# Altium integrated library Analog Devices Data Converters Digital-to-Analog Converters.IntLib: 2231 symbols (part 156 of 181)
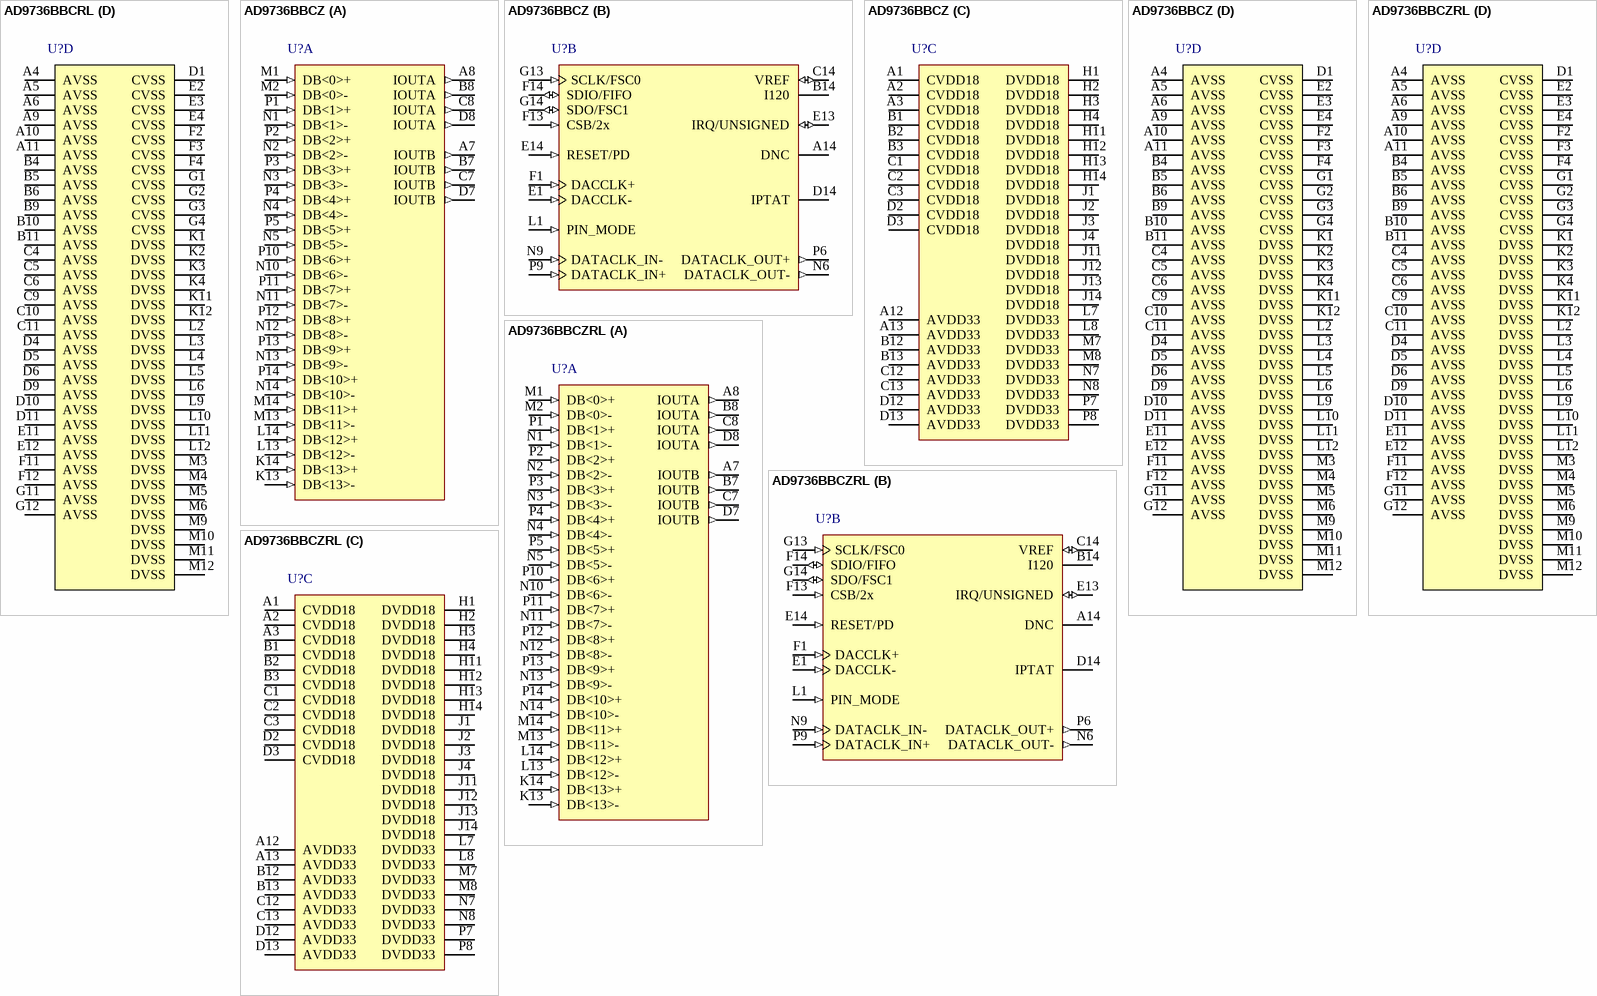
[diagram p269: symbols AD9736BBCRL to AD9736BBCZRL]

## AD9736BBCRL
designator U?
Single 14-Bit Digital-to-Analog Converter, 1200 Msps, -40 to +85 degC, BC-160-1, Reel; Generic Part Number: AD9736; Manufacturer: Analog Devices; PartNumber: AD9736BBCRL; # DAC Outputs: 1; Max V+: 3.47V; Op Pwr Diss: 550mW; Resolution (Bits): 14; Single Supply: Yes; DatasheetVersion: Rev.A; PackageVersion: 012006-0; PackageReference: BC-160-1; PackageDescription: 160-Ball Chip Scale Package Ball Grid Array [CSP_BGA]; Supplier 1: Digi-Key; Supplier Part Number 1: AD9736BBCRL-ND; Supplier 2: Mouser; Supplier Part Number 2: 584-AD9736BBCR; Packing: Reel; RoHS: N; Mounting Technology: Surface Mount; Code_JEDEC: MO-205-AE; ComponentLink1Description: Manufacturer URL; ComponentLink1URL: http://www.analog.com/en/index.html; ComponentLink2Description: Datasheet; ComponentLink2URL: http://www.analog.com/static/imported-files/data_sheets/AD9734_9735_9736.pdf; ComponentLink3Description: Package Specification; ComponentLink3URL: http://www.analog.com/static/imported-files/packages/31243239490197BC_160_1.pdf; ComponentLink4Description: Product URL; ComponentLink4URL: http://www.analog.com/en/digital-to-analog-converters/da-converters/ad9736/products/product.html
footprint BC-160-1 (BGA, 160-Leads, Body 12x12mm, Pitch 0.8mm)
part A pins: A7 IOUTB (out) "DAC Negative Output. 10 mA to 30 mA full-scale output current.", A8 IOUTA (out) "DAC Positive Output. 10 mA to 30 mA full-scale output current.", B7 IOUTB (out) "DAC Negative Output. 10 mA to 30 mA full-scale output current.", B8 IOUTA (out) "DAC Positive Output. 10 mA to 30 mA full-scale output current.", C7 IOUTB (out) "DAC Negative Output. 10 mA to 30 mA full-scale output current.", C8 IOUTA (out) "DAC Positive Output. 10 mA to 30 mA full-scale output current.", D7 IOUTB (out) "DAC Negative Output. 10 mA to 30 mA full-scale output current.", D8 IOUTA (out) "DAC Positive Output. 10 mA to 30 mA full-scale output current.", K13 DB<13>- (in) "Negative Data Input Bit 13 (MSB). Conforms to IEEE-1596 reduced range link.", K14 DB<13>+ (in) "Positive Data Input Bit 13 (MSB). Conforms to IEEE-1596 reduced range link.", L13 DB<12>- (in) "Negative Data Input Bit 12. Conforms to IEEE-1596 reduced range link.", L14 DB<12>+ (in) "Positive Data Input Bit 12. Conforms to IEEE-1596 reduced range link.", M1 DB<0>+ (in) "Positive Data Input Bit 0 (LSB). Conforms to IEEE-1596 reduced range link.", M2 DB<0>- (in) "Negative Data Input Bit 0 (LSB). Conforms to IEEE-1596 reduced range link.", M13 DB<11>- (in) "Negative Data Input Bit 11. Conforms to IEEE-1596 reduced range link.", M14 DB<11>+ (in) "Positive Data Input Bit 11. Conforms to IEEE-1596 reduced range link.", N1 DB<1>- (in) "Negative Data Input Bit 1. Conforms to IEEE-1596 reduced range link.", N2 DB<2>- (in) "Negative Data Input Bit 2. Conforms to IEEE-1596 reduced range link.", N3 DB<3>- (in) "Negative Data Input Bit 3. Conforms to IEEE-1596 reduced range link.", N4 DB<4>- (in) "Negative Data Input Bit 4. Conforms to IEEE-1596 reduced range link.", N5 DB<5>- (in) "Negative Data Input Bit 5. Conforms to IEEE-1596 reduced range link.", N10 DB<6>- (in) "Negative Data Input Bit 6. Conforms to IEEE-1596 reduced range link.", N11 DB<7>- (in) "Negative Data Input Bit 7. Conforms to IEEE-1596 reduced range link.", N12 DB<8>- (in) "Negative Data Input Bit 8. Conforms to IEEE-1596 reduced range link.", N13 DB<9>- (in) "Negative Data Input Bit 9. Conforms to IEEE-1596 reduced range link.", N14 DB<10>- (in) "Negative Data Input Bit 10. Conforms to IEEE-1596 reduced range link.", P1 DB<1>+ (in) "Positive Data Input Bit 1. Conforms to IEEE-1596 reduced range link.", P2 DB<2>+ (in) "Positive Data Input Bit 2. Conforms to IEEE-1596 reduced range link.", P3 DB<3>+ (in) "Positive Data Input Bit 3. Conforms to IEEE-1596 reduced range link.", P4 DB<4>+ (in) "Positive Data Input Bit 4. Conforms to IEEE-1596 reduced range link.", P5 DB<5>+ (in) "Positive Data Input Bit 5. Conforms to IEEE-1596 reduced range link.", P10 DB<6>+ (in) "Positive Data Input Bit 6. Conforms to IEEE-1596 reduced range link.", P11 DB<7>+ (in) "Positive Data Input Bit 7. Conforms to IEEE-1596 reduced range link.", P12 DB<8>+ (in) "Positive Data Input Bit 8. Conforms to IEEE-1596 reduced range link.", P13 DB<9>+ (in) "Positive Data Input Bit 9. Conforms to IEEE-1596 reduced range link.", P14 DB<10>+ (in) "Positive Data Input Bit 10. Conforms to IEEE-1596 reduced range link."
part B pins: A14 DNC "Do Not Connect.", B14 I120 "Nominal 1.2 V Reference. Tie to analog ground via 10 kohm resistor to generate a 120 uA reference current.", C14 VREF (io) "Band Gap Voltage Reference I/O. Tie to analog ground via 1 nF capacitor; output impedance approximately 5 kohm.", D14 IPTAT "Factory Test Pin. Output current, proportional to absolute temperature, is approximately 10 uA at 25degreesC with a slope of approximately 20 nA/degreesC.", E1 DACCLK- (in) "Negative DAC Clock Input (DACCLK).", E13 IRQ/UNSIGNED (io) "If PIN_MODE = 0, IRQ: Active low open-drain interrupt request output, pull up to DVDD33 with 10 kohm resistor. If PIN_MODE = 1, UNSIGNED: Digital input pin where 0 = twos complement input data format, 1 = unsigned.", E14 RESET/PD (in) "If PIN_MODE = 0, RESET: 1 resets the AD9734. If PIN_MODE = 1, PD: 1 puts the AD9734 in the power-down state.", F1 DACCLK+ (in) "Positive DAC Clock Input (DACCLK).", F13 CSB/2x (in) "See the Serial Peripheral Interface section and the Pin Mode Operation section for pin description.", F14 SDIO/FIFO (io) "See the Pin Mode Operation section for pin description.", G13 SCLK/FSC0 (in) "See the Pin Mode Operation section for pin description.", G14 SDO/FSC1 (io) "See the Pin Mode Operation section for pin description.", L1 PIN_MODE (in) "0 = SPI Mode. SPI is enabled. 1 = PIN Mode. SPI is disabled; direct pin control.", N6 DATACLK_OUT- (out) "Negative Data Output Clock. Conforms to IEEE-1596 reduced range link.", N9 DATACLK_IN- (in) "Negative Data Input Clock. Conforms to IEEE-1596 reduced range link.", P6 DATACLK_OUT+ (out) "Positive Data Output Clock. Conforms to IEEE-1596 reduced range link.", P9 DATACLK_IN+ (in) "Positive Data Input Clock. Conforms to IEEE-1596 reduced range link."
part C pins: A1 CVDD18 (power) "1.8 V Clock Supply.", A2 CVDD18 (power) "1.8 V Clock Supply.", A3 CVDD18 (power) "1.8 V Clock Supply.", A12 AVDD33 (power) "3.3 V Analog Supply.", A13 AVDD33 (power) "3.3 V Analog Supply.", B1 CVDD18 (power) "1.8 V Clock Supply.", B2 CVDD18 (power) "1.8 V Clock Supply.", B3 CVDD18 (power) "1.8 V Clock Supply.", B12 AVDD33 (power) "3.3 V Analog Supply.", B13 AVDD33 (power) "3.3 V Analog Supply.", C1 CVDD18 (power) "1.8 V Clock Supply.", C2 CVDD18 (power) "1.8 V Clock Supply.", C3 CVDD18 (power) "1.8 V Clock Supply.", C12 AVDD33 (power) "3.3 V Analog Supply.", C13 AVDD33 (power) "3.3 V Analog Supply.", D2 CVDD18 (power) "1.8 V Clock Supply.", D3 CVDD18 (power) "1.8 V Clock Supply.", D12 AVDD33 (power) "3.3 V Analog Supply.", D13 AVDD33 (power) "3.3 V Analog Supply.", H1 DVDD18 (power) "1.8 V Digital Supply.", H2 DVDD18 (power) "1.8 V Digital Supply.", H3 DVDD18 (power) "1.8 V Digital Supply.", H4 DVDD18 (power) "1.8 V Digital Supply.", H11 DVDD18 (power) "1.8 V Digital Supply.", H12 DVDD18 (power) "1.8 V Digital Supply.", H13 DVDD18 (power) "1.8 V Digital Supply.", H14 DVDD18 (power) "1.8 V Digital Supply.", J1 DVDD18 (power) "1.8 V Digital Supply.", J2 DVDD18 (power) "1.8 V Digital Supply.", J3 DVDD18 (power) "1.8 V Digital Supply.", J4 DVDD18 (power) "1.8 V Digital Supply.", J11 DVDD18 (power) "1.8 V Digital Supply.", J12 DVDD18 (power) "1.8 V Digital Supply.", J13 DVDD18 (power) "1.8 V Digital Supply.", J14 DVDD18 (power) "1.8 V Digital Supply.", L7 DVDD33 (power) "3.3 V Digital Supply.", L8 DVDD33 (power) "3.3 V Digital Supply.", M7 DVDD33 (power) "3.3 V Digital Supply.", M8 DVDD33 (power) "3.3 V Digital Supply.", N7 DVDD33 (power) "3.3 V Digital Supply.", N8 DVDD33 (power) "3.3 V Digital Supply.", P7 DVDD33 (power) "3.3 V Digital Supply.", P8 DVDD33 (power) "3.3 V Digital Supply."
part D pins: A4 AVSS (power) "Analog Supply Ground.", A5 AVSS (power) "Analog Supply Ground.", A6 AVSS (power) "Analog Supply Ground.", A9 AVSS (power) "Analog Supply Ground.", A10 AVSS (power) "Analog Supply Ground.", A11 AVSS (power) "Analog Supply Ground.", B4 AVSS (power) "Analog Supply Ground.", B5 AVSS (power) "Analog Supply Ground.", B6 AVSS (power) "Analog Supply Ground.", B9 AVSS (power) "Analog Supply Ground.", B10 AVSS (power) "Analog Supply Ground.", B11 AVSS (power) "Analog Supply Ground.", C4 AVSS (power) "Analog Supply Ground.", C5 AVSS (power) "Analog Supply Ground.", C6 AVSS (power) "Analog Supply Ground.", C9 AVSS (power) "Analog Supply Ground.", C10 AVSS (power) "Analog Supply Ground.", C11 AVSS (power) "Analog Supply Ground.", D1 CVSS (power) "Clock Supply Ground.", D4 AVSS (power) "Analog Supply Ground.", D5 AVSS (power) "Analog Supply Ground.", D6 AVSS (power) "Analog Supply Ground.", D9 AVSS (power) "Analog Supply Ground.", D10 AVSS (power) "Analog Supply Ground.", D11 AVSS (power) "Analog Supply Ground.", E2 CVSS (power) "Clock Supply Ground.", E3 CVSS (power) "Clock Supply Ground.", E4 CVSS (power) "Clock Supply Ground.", E11 AVSS (power) "Analog Supply Ground Shield. Tie to AVSS at the DAC.", E12 AVSS (power) "Analog Supply Ground Shield. Tie to AVSS at the DAC.", F2 CVSS (power) "Clock Supply Ground.", F3 CVSS (power) "Clock Supply Ground.", F4 CVSS (power) "Clock Supply Ground.", F11 AVSS (power) "Analog Supply Ground Shield. Tie to AVSS at the DAC.", F12 AVSS (power) "Analog Supply Ground Shield. Tie to AVSS at the DAC.", G1 CVSS (power) "Clock Supply Ground.", G2 CVSS (power) "Clock Supply Ground.", G3 CVSS (power) "Clock Supply Ground.", G4 CVSS (power) "Clock Supply Ground.", G11 AVSS (power) "Analog Supply Ground Shield. Tie to AVSS at the DAC.", G12 AVSS (power) "Analog Supply Ground Shield. Tie to AVSS at the DAC.", K1 DVSS (power) "Digital Supply Ground.", K2 DVSS (power) "Digital Supply Ground.", K3 DVSS (power) "Digital Supply Ground.", K4 DVSS (power) "Digital Supply Ground.", K11 DVSS (power) "Digital Supply Ground.", K12 DVSS (power) "Digital Supply Ground.", L2 DVSS (power) "Digital Supply Ground.", L3 DVSS (power) "Digital Supply Ground.", L4 DVSS (power) "Digital Supply Ground.", L5 DVSS (power) "Digital Supply Ground.", L6 DVSS (power) "Digital Supply Ground.", L9 DVSS (power) "Digital Supply Ground.", L10 DVSS (power) "Digital Supply Ground.", L11 DVSS (power) "Digital Supply Ground.", L12 DVSS (power) "Digital Supply Ground.", M3 DVSS (power) "Digital Supply Ground.", M4 DVSS (power) "Digital Supply Ground.", M5 DVSS (power) "Digital Supply Ground.", M6 DVSS (power) "Digital Supply Ground.", M9 DVSS (power) "Digital Supply Ground.", M10 DVSS (power) "Digital Supply Ground.", M11 DVSS (power) "Digital Supply Ground.", M12 DVSS (power) "Digital Supply Ground."

## AD9736BBCZ
designator U?
Single 14-Bit Digital-to-Analog Converter, 1200 Msps, -40 to +85 degC, BC-160-1, Pb-Free, Tray; Generic Part Number: AD9736; Manufacturer: Analog Devices; PartNumber: AD9736BBCZ; # DAC Outputs: 1; Max V+: 3.47V; Op Pwr Diss: 550mW; Resolution (Bits): 14; Single Supply: Yes; DatasheetVersion: Rev.A; PackageVersion: 012006-0; PackageReference: BC-160-1; PackageDescription: 160-Ball Chip Scale Package Ball Grid Array [CSP_BGA]; Supplier 1: Digi-Key; Supplier Part Number 1: AD9736BBCZ-ND; Supplier 2: Farnell; Supplier Part Number 2: 1117882; Supplier 3: Newark; Supplier Part Number 3: 12M9241; Supplier 4: Mouser; Supplier Part Number 4: 584-AD9736BBCZ; Packing: Tray; RoHS: Y; Mounting Technology: Surface Mount; Code_JEDEC: MO-205-AE; ComponentLink1Description: Manufacturer URL; ComponentLink1URL: http://www.analog.com/en/index.html; ComponentLink2Description: Datasheet; ComponentLink2URL: http://www.analog.com/static/imported-files/data_sheets/AD9734_9735_9736.pdf; ComponentLink3Description: Package Specification; ComponentLink3URL: http://www.analog.com/static/imported-files/packages/31243239490197BC_160_1.pdf; ComponentLink4Description: Product URL; ComponentLink4URL: http://www.analog.com/en/digital-to-analog-converters/da-converters/ad9736/products/product.html
footprint BC-160-1 (BGA, 160-Leads, Body 12x12mm, Pitch 0.8mm)
part A pins: A7 IOUTB (out) "DAC Negative Output. 10 mA to 30 mA full-scale output current.", A8 IOUTA (out) "DAC Positive Output. 10 mA to 30 mA full-scale output current.", B7 IOUTB (out) "DAC Negative Output. 10 mA to 30 mA full-scale output current.", B8 IOUTA (out) "DAC Positive Output. 10 mA to 30 mA full-scale output current.", C7 IOUTB (out) "DAC Negative Output. 10 mA to 30 mA full-scale output current.", C8 IOUTA (out) "DAC Positive Output. 10 mA to 30 mA full-scale output current.", D7 IOUTB (out) "DAC Negative Output. 10 mA to 30 mA full-scale output current.", D8 IOUTA (out) "DAC Positive Output. 10 mA to 30 mA full-scale output current.", K13 DB<13>- (in) "Negative Data Input Bit 13 (MSB). Conforms to IEEE-1596 reduced range link.", K14 DB<13>+ (in) "Positive Data Input Bit 13 (MSB). Conforms to IEEE-1596 reduced range link.", L13 DB<12>- (in) "Negative Data Input Bit 12. Conforms to IEEE-1596 reduced range link.", L14 DB<12>+ (in) "Positive Data Input Bit 12. Conforms to IEEE-1596 reduced range link.", M1 DB<0>+ (in) "Positive Data Input Bit 0 (LSB). Conforms to IEEE-1596 reduced range link.", M2 DB<0>- (in) "Negative Data Input Bit 0 (LSB). Conforms to IEEE-1596 reduced range link.", M13 DB<11>- (in) "Negative Data Input Bit 11. Conforms to IEEE-1596 reduced range link.", M14 DB<11>+ (in) "Positive Data Input Bit 11. Conforms to IEEE-1596 reduced range link.", N1 DB<1>- (in) "Negative Data Input Bit 1. Conforms to IEEE-1596 reduced range link.", N2 DB<2>- (in) "Negative Data Input Bit 2. Conforms to IEEE-1596 reduced range link.", N3 DB<3>- (in) "Negative Data Input Bit 3. Conforms to IEEE-1596 reduced range link.", N4 DB<4>- (in) "Negative Data Input Bit 4. Conforms to IEEE-1596 reduced range link.", N5 DB<5>- (in) "Negative Data Input Bit 5. Conforms to IEEE-1596 reduced range link.", N10 DB<6>- (in) "Negative Data Input Bit 6. Conforms to IEEE-1596 reduced range link.", N11 DB<7>- (in) "Negative Data Input Bit 7. Conforms to IEEE-1596 reduced range link.", N12 DB<8>- (in) "Negative Data Input Bit 8. Conforms to IEEE-1596 reduced range link.", N13 DB<9>- (in) "Negative Data Input Bit 9. Conforms to IEEE-1596 reduced range link.", N14 DB<10>- (in) "Negative Data Input Bit 10. Conforms to IEEE-1596 reduced range link.", P1 DB<1>+ (in) "Positive Data Input Bit 1. Conforms to IEEE-1596 reduced range link.", P2 DB<2>+ (in) "Positive Data Input Bit 2. Conforms to IEEE-1596 reduced range link.", P3 DB<3>+ (in) "Positive Data Input Bit 3. Conforms to IEEE-1596 reduced range link.", P4 DB<4>+ (in) "Positive Data Input Bit 4. Conforms to IEEE-1596 reduced range link.", P5 DB<5>+ (in) "Positive Data Input Bit 5. Conforms to IEEE-1596 reduced range link.", P10 DB<6>+ (in) "Positive Data Input Bit 6. Conforms to IEEE-1596 reduced range link.", P11 DB<7>+ (in) "Positive Data Input Bit 7. Conforms to IEEE-1596 reduced range link.", P12 DB<8>+ (in) "Positive Data Input Bit 8. Conforms to IEEE-1596 reduced range link.", P13 DB<9>+ (in) "Positive Data Input Bit 9. Conforms to IEEE-1596 reduced range link.", P14 DB<10>+ (in) "Positive Data Input Bit 10. Conforms to IEEE-1596 reduced range link."
part B pins: A14 DNC "Do Not Connect.", B14 I120 "Nominal 1.2 V Reference. Tie to analog ground via 10 kohm resistor to generate a 120 uA reference current.", C14 VREF (io) "Band Gap Voltage Reference I/O. Tie to analog ground via 1 nF capacitor; output impedance approximately 5 kohm.", D14 IPTAT "Factory Test Pin. Output current, proportional to absolute temperature, is approximately 10 uA at 25degreesC with a slope of approximately 20 nA/degreesC.", E1 DACCLK- (in) "Negative DAC Clock Input (DACCLK).", E13 IRQ/UNSIGNED (io) "If PIN_MODE = 0, IRQ: Active low open-drain interrupt request output, pull up to DVDD33 with 10 kohm resistor. If PIN_MODE = 1, UNSIGNED: Digital input pin where 0 = twos complement input data format, 1 = unsigned.", E14 RESET/PD (in) "If PIN_MODE = 0, RESET: 1 resets the AD9734. If PIN_MODE = 1, PD: 1 puts the AD9734 in the power-down state.", F1 DACCLK+ (in) "Positive DAC Clock Input (DACCLK).", F13 CSB/2x (in) "See the Serial Peripheral Interface section and the Pin Mode Operation section for pin description.", F14 SDIO/FIFO (io) "See the Pin Mode Operation section for pin description.", G13 SCLK/FSC0 (in) "See the Pin Mode Operation section for pin description.", G14 SDO/FSC1 (io) "See the Pin Mode Operation section for pin description.", L1 PIN_MODE (in) "0 = SPI Mode. SPI is enabled. 1 = PIN Mode. SPI is disabled; direct pin control.", N6 DATACLK_OUT- (out) "Negative Data Output Clock. Conforms to IEEE-1596 reduced range link.", N9 DATACLK_IN- (in) "Negative Data Input Clock. Conforms to IEEE-1596 reduced range link.", P6 DATACLK_OUT+ (out) "Positive Data Output Clock. Conforms to IEEE-1596 reduced range link.", P9 DATACLK_IN+ (in) "Positive Data Input Clock. Conforms to IEEE-1596 reduced range link."
part C pins: A1 CVDD18 (power) "1.8 V Clock Supply.", A2 CVDD18 (power) "1.8 V Clock Supply.", A3 CVDD18 (power) "1.8 V Clock Supply.", A12 AVDD33 (power) "3.3 V Analog Supply.", A13 AVDD33 (power) "3.3 V Analog Supply.", B1 CVDD18 (power) "1.8 V Clock Supply.", B2 CVDD18 (power) "1.8 V Clock Supply.", B3 CVDD18 (power) "1.8 V Clock Supply.", B12 AVDD33 (power) "3.3 V Analog Supply.", B13 AVDD33 (power) "3.3 V Analog Supply.", C1 CVDD18 (power) "1.8 V Clock Supply.", C2 CVDD18 (power) "1.8 V Clock Supply.", C3 CVDD18 (power) "1.8 V Clock Supply.", C12 AVDD33 (power) "3.3 V Analog Supply.", C13 AVDD33 (power) "3.3 V Analog Supply.", D2 CVDD18 (power) "1.8 V Clock Supply.", D3 CVDD18 (power) "1.8 V Clock Supply.", D12 AVDD33 (power) "3.3 V Analog Supply.", D13 AVDD33 (power) "3.3 V Analog Supply.", H1 DVDD18 (power) "1.8 V Digital Supply.", H2 DVDD18 (power) "1.8 V Digital Supply.", H3 DVDD18 (power) "1.8 V Digital Supply.", H4 DVDD18 (power) "1.8 V Digital Supply.", H11 DVDD18 (power) "1.8 V Digital Supply.", H12 DVDD18 (power) "1.8 V Digital Supply.", H13 DVDD18 (power) "1.8 V Digital Supply.", H14 DVDD18 (power) "1.8 V Digital Supply.", J1 DVDD18 (power) "1.8 V Digital Supply.", J2 DVDD18 (power) "1.8 V Digital Supply.", J3 DVDD18 (power) "1.8 V Digital Supply.", J4 DVDD18 (power) "1.8 V Digital Supply.", J11 DVDD18 (power) "1.8 V Digital Supply.", J12 DVDD18 (power) "1.8 V Digital Supply.", J13 DVDD18 (power) "1.8 V Digital Supply.", J14 DVDD18 (power) "1.8 V Digital Supply.", L7 DVDD33 (power) "3.3 V Digital Supply.", L8 DVDD33 (power) "3.3 V Digital Supply.", M7 DVDD33 (power) "3.3 V Digital Supply.", M8 DVDD33 (power) "3.3 V Digital Supply.", N7 DVDD33 (power) "3.3 V Digital Supply.", N8 DVDD33 (power) "3.3 V Digital Supply.", P7 DVDD33 (power) "3.3 V Digital Supply.", P8 DVDD33 (power) "3.3 V Digital Supply."
part D pins: A4 AVSS (power) "Analog Supply Ground.", A5 AVSS (power) "Analog Supply Ground.", A6 AVSS (power) "Analog Supply Ground.", A9 AVSS (power) "Analog Supply Ground.", A10 AVSS (power) "Analog Supply Ground.", A11 AVSS (power) "Analog Supply Ground.", B4 AVSS (power) "Analog Supply Ground.", B5 AVSS (power) "Analog Supply Ground.", B6 AVSS (power) "Analog Supply Ground.", B9 AVSS (power) "Analog Supply Ground.", B10 AVSS (power) "Analog Supply Ground.", B11 AVSS (power) "Analog Supply Ground.", C4 AVSS (power) "Analog Supply Ground.", C5 AVSS (power) "Analog Supply Ground.", C6 AVSS (power) "Analog Supply Ground.", C9 AVSS (power) "Analog Supply Ground.", C10 AVSS (power) "Analog Supply Ground.", C11 AVSS (power) "Analog Supply Ground.", D1 CVSS (power) "Clock Supply Ground.", D4 AVSS (power) "Analog Supply Ground.", D5 AVSS (power) "Analog Supply Ground.", D6 AVSS (power) "Analog Supply Ground.", D9 AVSS (power) "Analog Supply Ground.", D10 AVSS (power) "Analog Supply Ground.", D11 AVSS (power) "Analog Supply Ground.", E2 CVSS (power) "Clock Supply Ground.", E3 CVSS (power) "Clock Supply Ground.", E4 CVSS (power) "Clock Supply Ground.", E11 AVSS (power) "Analog Supply Ground Shield. Tie to AVSS at the DAC.", E12 AVSS (power) "Analog Supply Ground Shield. Tie to AVSS at the DAC.", F2 CVSS (power) "Clock Supply Ground.", F3 CVSS (power) "Clock Supply Ground.", F4 CVSS (power) "Clock Supply Ground.", F11 AVSS (power) "Analog Supply Ground Shield. Tie to AVSS at the DAC.", F12 AVSS (power) "Analog Supply Ground Shield. Tie to AVSS at the DAC.", G1 CVSS (power) "Clock Supply Ground.", G2 CVSS (power) "Clock Supply Ground.", G3 CVSS (power) "Clock Supply Ground.", G4 CVSS (power) "Clock Supply Ground.", G11 AVSS (power) "Analog Supply Ground Shield. Tie to AVSS at the DAC.", G12 AVSS (power) "Analog Supply Ground Shield. Tie to AVSS at the DAC.", K1 DVSS (power) "Digital Supply Ground.", K2 DVSS (power) "Digital Supply Ground.", K3 DVSS (power) "Digital Supply Ground.", K4 DVSS (power) "Digital Supply Ground.", K11 DVSS (power) "Digital Supply Ground.", K12 DVSS (power) "Digital Supply Ground.", L2 DVSS (power) "Digital Supply Ground.", L3 DVSS (power) "Digital Supply Ground.", L4 DVSS (power) "Digital Supply Ground.", L5 DVSS (power) "Digital Supply Ground.", L6 DVSS (power) "Digital Supply Ground.", L9 DVSS (power) "Digital Supply Ground.", L10 DVSS (power) "Digital Supply Ground.", L11 DVSS (power) "Digital Supply Ground.", L12 DVSS (power) "Digital Supply Ground.", M3 DVSS (power) "Digital Supply Ground.", M4 DVSS (power) "Digital Supply Ground.", M5 DVSS (power) "Digital Supply Ground.", M6 DVSS (power) "Digital Supply Ground.", M9 DVSS (power) "Digital Supply Ground.", M10 DVSS (power) "Digital Supply Ground.", M11 DVSS (power) "Digital Supply Ground.", M12 DVSS (power) "Digital Supply Ground."

## AD9736BBCZRL
designator U?
Single 14-Bit Digital-to-Analog Converter, 1200 Msps, -40 to +85 degC, BC-160-1, Pb-Free, Reel; Generic Part Number: AD9736; Manufacturer: Analog Devices; PartNumber: AD9736BBCZRL; # DAC Outputs: 1; Max V+: 3.47V; Op Pwr Diss: 550mW; Resolution (Bits): 14; Single Supply: Yes; DatasheetVersion: Rev.A; PackageVersion: 012006-0; PackageReference: BC-160-1; PackageDescription: 160-Ball Chip Scale Package Ball Grid Array [CSP_BGA]; Supplier 1: Digi-Key; Supplier Part Number 1: AD9736BBCZRL-ND; Supplier 2: Mouser; Supplier Part Number 2: 584-AD9736BBCZR; Packing: Reel; RoHS: Y; Mounting Technology: Surface Mount; Code_JEDEC: MO-205-AE; ComponentLink1Description: Manufacturer URL; ComponentLink1URL: http://www.analog.com/en/index.html; ComponentLink2Description: Datasheet; ComponentLink2URL: http://www.analog.com/static/imported-files/data_sheets/AD9734_9735_9736.pdf; ComponentLink3Description: Package Specification; ComponentLink3URL: http://www.analog.com/static/imported-files/packages/31243239490197BC_160_1.pdf; ComponentLink4Description: Product URL; ComponentLink4URL: http://www.analog.com/en/digital-to-analog-converters/da-converters/ad9736/products/product.html
footprint BC-160-1 (BGA, 160-Leads, Body 12x12mm, Pitch 0.8mm)
part A pins: A7 IOUTB (out) "DAC Negative Output. 10 mA to 30 mA full-scale output current.", A8 IOUTA (out) "DAC Positive Output. 10 mA to 30 mA full-scale output current.", B7 IOUTB (out) "DAC Negative Output. 10 mA to 30 mA full-scale output current.", B8 IOUTA (out) "DAC Positive Output. 10 mA to 30 mA full-scale output current.", C7 IOUTB (out) "DAC Negative Output. 10 mA to 30 mA full-scale output current.", C8 IOUTA (out) "DAC Positive Output. 10 mA to 30 mA full-scale output current.", D7 IOUTB (out) "DAC Negative Output. 10 mA to 30 mA full-scale output current.", D8 IOUTA (out) "DAC Positive Output. 10 mA to 30 mA full-scale output current.", K13 DB<13>- (in) "Negative Data Input Bit 13 (MSB). Conforms to IEEE-1596 reduced range link.", K14 DB<13>+ (in) "Positive Data Input Bit 13 (MSB). Conforms to IEEE-1596 reduced range link.", L13 DB<12>- (in) "Negative Data Input Bit 12. Conforms to IEEE-1596 reduced range link.", L14 DB<12>+ (in) "Positive Data Input Bit 12. Conforms to IEEE-1596 reduced range link.", M1 DB<0>+ (in) "Positive Data Input Bit 0 (LSB). Conforms to IEEE-1596 reduced range link.", M2 DB<0>- (in) "Negative Data Input Bit 0 (LSB). Conforms to IEEE-1596 reduced range link.", M13 DB<11>- (in) "Negative Data Input Bit 11. Conforms to IEEE-1596 reduced range link.", M14 DB<11>+ (in) "Positive Data Input Bit 11. Conforms to IEEE-1596 reduced range link.", N1 DB<1>- (in) "Negative Data Input Bit 1. Conforms to IEEE-1596 reduced range link.", N2 DB<2>- (in) "Negative Data Input Bit 2. Conforms to IEEE-1596 reduced range link.", N3 DB<3>- (in) "Negative Data Input Bit 3. Conforms to IEEE-1596 reduced range link.", N4 DB<4>- (in) "Negative Data Input Bit 4. Conforms to IEEE-1596 reduced range link.", N5 DB<5>- (in) "Negative Data Input Bit 5. Conforms to IEEE-1596 reduced range link.", N10 DB<6>- (in) "Negative Data Input Bit 6. Conforms to IEEE-1596 reduced range link.", N11 DB<7>- (in) "Negative Data Input Bit 7. Conforms to IEEE-1596 reduced range link.", N12 DB<8>- (in) "Negative Data Input Bit 8. Conforms to IEEE-1596 reduced range link.", N13 DB<9>- (in) "Negative Data Input Bit 9. Conforms to IEEE-1596 reduced range link.", N14 DB<10>- (in) "Negative Data Input Bit 10. Conforms to IEEE-1596 reduced range link.", P1 DB<1>+ (in) "Positive Data Input Bit 1. Conforms to IEEE-1596 reduced range link.", P2 DB<2>+ (in) "Positive Data Input Bit 2. Conforms to IEEE-1596 reduced range link.", P3 DB<3>+ (in) "Positive Data Input Bit 3. Conforms to IEEE-1596 reduced range link.", P4 DB<4>+ (in) "Positive Data Input Bit 4. Conforms to IEEE-1596 reduced range link.", P5 DB<5>+ (in) "Positive Data Input Bit 5. Conforms to IEEE-1596 reduced range link.", P10 DB<6>+ (in) "Positive Data Input Bit 6. Conforms to IEEE-1596 reduced range link.", P11 DB<7>+ (in) "Positive Data Input Bit 7. Conforms to IEEE-1596 reduced range link.", P12 DB<8>+ (in) "Positive Data Input Bit 8. Conforms to IEEE-1596 reduced range link.", P13 DB<9>+ (in) "Positive Data Input Bit 9. Conforms to IEEE-1596 reduced range link.", P14 DB<10>+ (in) "Positive Data Input Bit 10. Conforms to IEEE-1596 reduced range link."
part B pins: A14 DNC "Do Not Connect.", B14 I120 "Nominal 1.2 V Reference. Tie to analog ground via 10 kohm resistor to generate a 120 uA reference current.", C14 VREF (io) "Band Gap Voltage Reference I/O. Tie to analog ground via 1 nF capacitor; output impedance approximately 5 kohm.", D14 IPTAT "Factory Test Pin. Output current, proportional to absolute temperature, is approximately 10 uA at 25degreesC with a slope of approximately 20 nA/degreesC.", E1 DACCLK- (in) "Negative DAC Clock Input (DACCLK).", E13 IRQ/UNSIGNED (io) "If PIN_MODE = 0, IRQ: Active low open-drain interrupt request output, pull up to DVDD33 with 10 kohm resistor. If PIN_MODE = 1, UNSIGNED: Digital input pin where 0 = twos complement input data format, 1 = unsigned.", E14 RESET/PD (in) "If PIN_MODE = 0, RESET: 1 resets the AD9734. If PIN_MODE = 1, PD: 1 puts the AD9734 in the power-down state.", F1 DACCLK+ (in) "Positive DAC Clock Input (DACCLK).", F13 CSB/2x (in) "See the Serial Peripheral Interface section and the Pin Mode Operation section for pin description.", F14 SDIO/FIFO (io) "See the Pin Mode Operation section for pin description.", G13 SCLK/FSC0 (in) "See the Pin Mode Operation section for pin description.", G14 SDO/FSC1 (io) "See the Pin Mode Operation section for pin description.", L1 PIN_MODE (in) "0 = SPI Mode. SPI is enabled. 1 = PIN Mode. SPI is disabled; direct pin control.", N6 DATACLK_OUT- (out) "Negative Data Output Clock. Conforms to IEEE-1596 reduced range link.", N9 DATACLK_IN- (in) "Negative Data Input Clock. Conforms to IEEE-1596 reduced range link.", P6 DATACLK_OUT+ (out) "Positive Data Output Clock. Conforms to IEEE-1596 reduced range link.", P9 DATACLK_IN+ (in) "Positive Data Input Clock. Conforms to IEEE-1596 reduced range link."
part C pins: A1 CVDD18 (power) "1.8 V Clock Supply.", A2 CVDD18 (power) "1.8 V Clock Supply.", A3 CVDD18 (power) "1.8 V Clock Supply.", A12 AVDD33 (power) "3.3 V Analog Supply.", A13 AVDD33 (power) "3.3 V Analog Supply.", B1 CVDD18 (power) "1.8 V Clock Supply.", B2 CVDD18 (power) "1.8 V Clock Supply.", B3 CVDD18 (power) "1.8 V Clock Supply.", B12 AVDD33 (power) "3.3 V Analog Supply.", B13 AVDD33 (power) "3.3 V Analog Supply.", C1 CVDD18 (power) "1.8 V Clock Supply.", C2 CVDD18 (power) "1.8 V Clock Supply.", C3 CVDD18 (power) "1.8 V Clock Supply.", C12 AVDD33 (power) "3.3 V Analog Supply.", C13 AVDD33 (power) "3.3 V Analog Supply.", D2 CVDD18 (power) "1.8 V Clock Supply.", D3 CVDD18 (power) "1.8 V Clock Supply.", D12 AVDD33 (power) "3.3 V Analog Supply.", D13 AVDD33 (power) "3.3 V Analog Supply.", H1 DVDD18 (power) "1.8 V Digital Supply.", H2 DVDD18 (power) "1.8 V Digital Supply.", H3 DVDD18 (power) "1.8 V Digital Supply.", H4 DVDD18 (power) "1.8 V Digital Supply.", H11 DVDD18 (power) "1.8 V Digital Supply.", H12 DVDD18 (power) "1.8 V Digital Supply.", H13 DVDD18 (power) "1.8 V Digital Supply.", H14 DVDD18 (power) "1.8 V Digital Supply.", J1 DVDD18 (power) "1.8 V Digital Supply.", J2 DVDD18 (power) "1.8 V Digital Supply.", J3 DVDD18 (power) "1.8 V Digital Supply.", J4 DVDD18 (power) "1.8 V Digital Supply.", J11 DVDD18 (power) "1.8 V Digital Supply.", J12 DVDD18 (power) "1.8 V Digital Supply.", J13 DVDD18 (power) "1.8 V Digital Supply.", J14 DVDD18 (power) "1.8 V Digital Supply.", L7 DVDD33 (power) "3.3 V Digital Supply.", L8 DVDD33 (power) "3.3 V Digital Supply.", M7 DVDD33 (power) "3.3 V Digital Supply.", M8 DVDD33 (power) "3.3 V Digital Supply.", N7 DVDD33 (power) "3.3 V Digital Supply.", N8 DVDD33 (power) "3.3 V Digital Supply.", P7 DVDD33 (power) "3.3 V Digital Supply.", P8 DVDD33 (power) "3.3 V Digital Supply."
part D pins: A4 AVSS (power) "Analog Supply Ground.", A5 AVSS (power) "Analog Supply Ground.", A6 AVSS (power) "Analog Supply Ground.", A9 AVSS (power) "Analog Supply Ground.", A10 AVSS (power) "Analog Supply Ground.", A11 AVSS (power) "Analog Supply Ground.", B4 AVSS (power) "Analog Supply Ground.", B5 AVSS (power) "Analog Supply Ground.", B6 AVSS (power) "Analog Supply Ground.", B9 AVSS (power) "Analog Supply Ground.", B10 AVSS (power) "Analog Supply Ground.", B11 AVSS (power) "Analog Supply Ground.", C4 AVSS (power) "Analog Supply Ground.", C5 AVSS (power) "Analog Supply Ground.", C6 AVSS (power) "Analog Supply Ground.", C9 AVSS (power) "Analog Supply Ground.", C10 AVSS (power) "Analog Supply Ground.", C11 AVSS (power) "Analog Supply Ground.", D1 CVSS (power) "Clock Supply Ground.", D4 AVSS (power) "Analog Supply Ground.", D5 AVSS (power) "Analog Supply Ground.", D6 AVSS (power) "Analog Supply Ground.", D9 AVSS (power) "Analog Supply Ground.", D10 AVSS (power) "Analog Supply Ground.", D11 AVSS (power) "Analog Supply Ground.", E2 CVSS (power) "Clock Supply Ground.", E3 CVSS (power) "Clock Supply Ground.", E4 CVSS (power) "Clock Supply Ground.", E11 AVSS (power) "Analog Supply Ground Shield. Tie to AVSS at the DAC.", E12 AVSS (power) "Analog Supply Ground Shield. Tie to AVSS at the DAC.", F2 CVSS (power) "Clock Supply Ground.", F3 CVSS (power) "Clock Supply Ground.", F4 CVSS (power) "Clock Supply Ground.", F11 AVSS (power) "Analog Supply Ground Shield. Tie to AVSS at the DAC.", F12 AVSS (power) "Analog Supply Ground Shield. Tie to AVSS at the DAC.", G1 CVSS (power) "Clock Supply Ground.", G2 CVSS (power) "Clock Supply Ground.", G3 CVSS (power) "Clock Supply Ground.", G4 CVSS (power) "Clock Supply Ground.", G11 AVSS (power) "Analog Supply Ground Shield. Tie to AVSS at the DAC.", G12 AVSS (power) "Analog Supply Ground Shield. Tie to AVSS at the DAC.", K1 DVSS (power) "Digital Supply Ground.", K2 DVSS (power) "Digital Supply Ground.", K3 DVSS (power) "Digital Supply Ground.", K4 DVSS (power) "Digital Supply Ground.", K11 DVSS (power) "Digital Supply Ground.", K12 DVSS (power) "Digital Supply Ground.", L2 DVSS (power) "Digital Supply Ground.", L3 DVSS (power) "Digital Supply Ground.", L4 DVSS (power) "Digital Supply Ground.", L5 DVSS (power) "Digital Supply Ground.", L6 DVSS (power) "Digital Supply Ground.", L9 DVSS (power) "Digital Supply Ground.", L10 DVSS (power) "Digital Supply Ground.", L11 DVSS (power) "Digital Supply Ground.", L12 DVSS (power) "Digital Supply Ground.", M3 DVSS (power) "Digital Supply Ground.", M4 DVSS (power) "Digital Supply Ground.", M5 DVSS (power) "Digital Supply Ground.", M6 DVSS (power) "Digital Supply Ground.", M9 DVSS (power) "Digital Supply Ground.", M10 DVSS (power) "Digital Supply Ground.", M11 DVSS (power) "Digital Supply Ground.", M12 DVSS (power) "Digital Supply Ground."

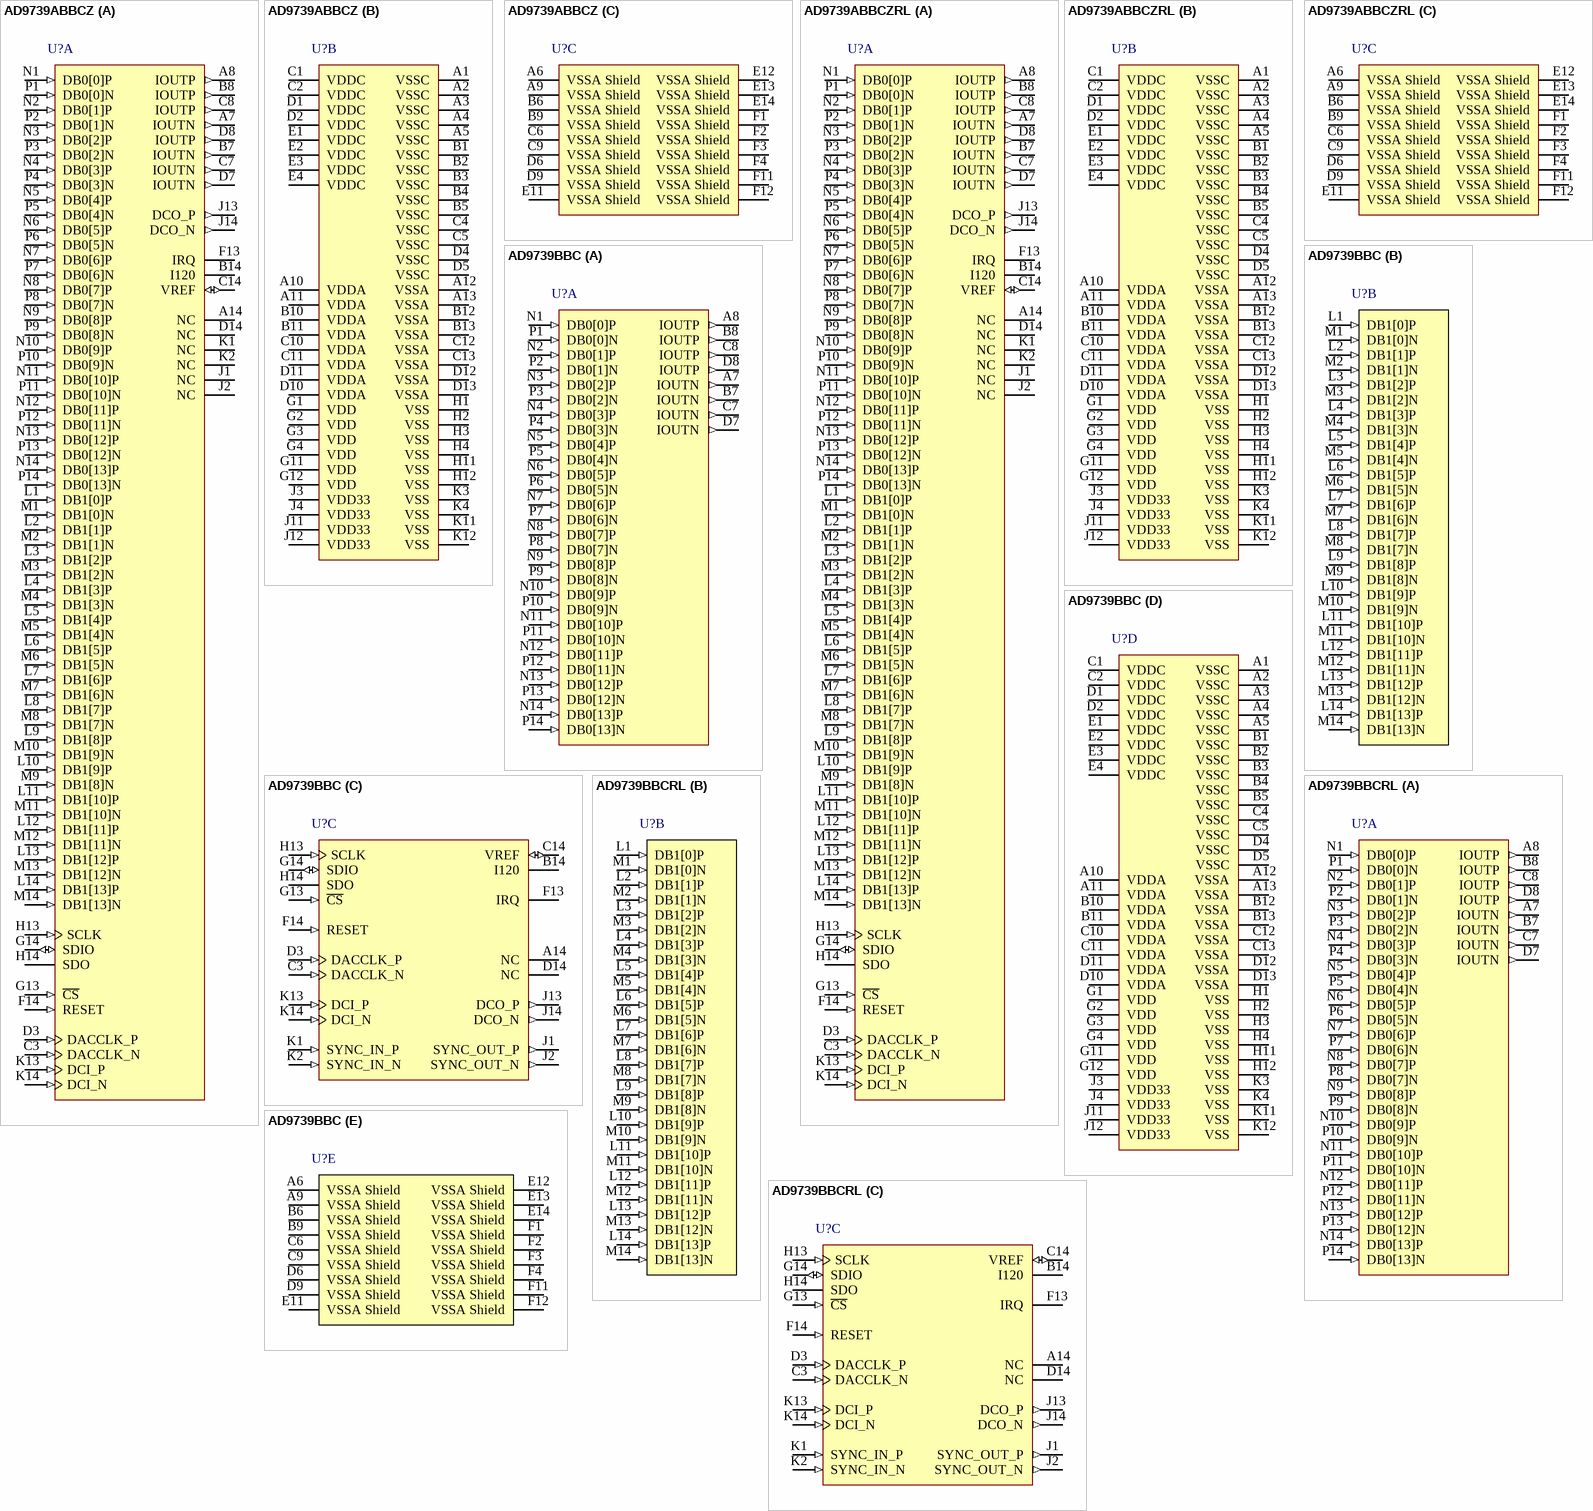
[diagram p92: symbols AD9739ABBCZ to AD9739BBCRL]

## AD9739ABBCZ
designator U?
Single 14-Bit 2.5 Gsps RF Digital-to-Analog Converter, -40 to +85 degC, BC-160-1, Pb-Free, Tray; Generic Part Number: AD9739A; Manufacturer: Analog Devices; PartNumber: AD9739ABBCZ; # DAC Outputs: 1; Op Pwr Diss: 960mW; Resolution (Bits): 14; Single Supply: No; DatasheetVersion: Rev.C; PackageVersion: 012006-0; PackageReference: BC-160-1; PackageDescription: 160-Ball Chip Scale Package Ball Grid Array [CSP_BGA]; Supplier 1: Digi-Key; Supplier Part Number 1: AD9739ABBCZ-ND; Supplier 2: Farnell; Supplier Part Number 2: 1898419; Supplier 3: Newark; Supplier Part Number 3: 83R9373; Supplier 4: Mouser; Supplier Part Number 4: 584-AD9739ABBCZ; Packing: Tray; RoHS: Y; Mounting Technology: Surface Mount; Code_JEDEC: MO-205-AE; ComponentLink1Description: Manufacturer URL; ComponentLink1URL: http://www.analog.com/en/index.html; ComponentLink2Description: Datasheet; ComponentLink2URL: http://www.analog.com/static/imported-files/data_sheets/AD9737A_9739A.pdf; ComponentLink3Description: Package Specification; ComponentLink3URL: http://www.analog.com/static/imported-files/packages/31243239490197BC_160_1.pdf; ComponentLink4Description: Product URL; ComponentLink4URL: http://www.analog.com/en/digital-to-analog-converters/da-converters/ad9739a/products/product.html
footprint BC-160-1 (BGA, 160-Leads, Body 12x12mm, Pitch 0.8mm)
part A pins: A7 IOUTN (out) "DAC Negative Current Output Source.", A8 IOUTP (out) "DAC Positive Current Output Source.", A14 NC "Do not connect to this pin.", B7 IOUTN (out) "DAC Negative Current Output Source.", B8 IOUTP (out) "DAC Positive Current Output Source.", B14 I120 "Nominal 1.2 V Reference. Tie to analog ground via a 10 k ohm resistor to generate a 120 uA reference current.", C3 DACCLK_N (in) "Negative DAC Clock Input (DACCLK).", C7 IOUTN (out) "DAC Negative Current Output Source.", C8 IOUTP (out) "DAC Positive Current Output Source.", C14 VREF (io) "Voltage Reference Input/Output. Decouple to VSSA with a 1 nF capacitor.", D3 DACCLK_P (in) "Positive DAC Clock Input (DACCLK).", D7 IOUTN (out) "DAC Negative Current Output Source.", D8 IOUTP (out) "DAC Positive Current Output Source.", D14 NC "Factory Test Pin. Do not connect to this pin.", F13 IRQ (oc) "Interrupt Request Open Drain Output. Active high. Pull up to VDD33 with a 10 k ohm resistor.", F14 RESET (in) "Reset Input. Active high. Tie to VSS if unused.", G13 ~{CS} (in) "Serial Port Enable Input.", G14 SDIO (io) "Serial Port Data Input/Output.", H13 SCLK (in) "Serial Port Clock Input.", H14 SDO (hiz) "Serial Port Data Output.", J1 NC "Differential resistor of 200 ohm exists between J1 and J2. Do not connect to this pin.", J2 NC "Differential resistor of 200 ohm exists between J1 and J2. Do not connect to this pin.", J13 DCO_P (out) "Positive Data Clock Output (DCO).", J14 DCO_N (out) "Negative Data Clock Output (DCO).", K1 NC "Differential resistor of 100 ohm exists between K1 and K2. Do not connect to this pin.", K2 NC "Differential resistor of 100 ohm exists between K1 and K2. Do not connect to this pin.", K13 DCI_P (in) "Positive Data Clock Input (DCI).", K14 DCI_N (in) "Negative Data Clock Input (DCI).", L1 DB1[0]P (in) "Port 1 Positive Data Input Bit 0.", L2 DB1[1]P (in) "Port 1 Positive Data Input Bit 1.", L3 DB1[2]P (in) "Port 1 Positive Data Input Bit 2.", L4 DB1[3]P (in) "Port 1 Positive Data Input Bit 3.", L5 DB1[4]P (in) "Port 1 Positive Data Input Bit 4.", L6 DB1[5]P (in) "Port 1 Positive Data Input Bit 5.", L7 DB1[6]P (in) "Port 1 Positive Data Input Bit 6.", L8 DB1[7]P (in) "Port 1 Positive Data Input Bit 7.", L9 DB1[8]P (in) "Port 1 Positive Data Input Bit 8.", L10 DB1[9]P (in) "Port 1 Positive Data Input Bit 9.", L11 DB1[10]P (in) "Port 1 Positive Data Input Bit 10.", L12 DB1[11]P (in) "Port 1 Positive Data Input Bit 11.", L13 DB1[12]P (in) "Port 1 Positive Data Input Bit 12.", L14 DB1[13]P (in) "Port 1 Positive Data Input Bit 13.", M1 DB1[0]N (in) "Port 1 Negative Data Input Bit 0.", M2 DB1[1]N (in) "Port 1 Negative Data Input Bit 1.", M3 DB1[2]N (in) "Port 1 Negative Data Input Bit 2.", M4 DB1[3]N (in) "Port 1 Negative Data Input Bit 3.", M5 DB1[4]N (in) "Port 1 Negative Data Input Bit 4.", M6 DB1[5]N (in) "Port 1 Negative Data Input Bit 5.", M7 DB1[6]N (in) "Port 1 Negative Data Input Bit 6.", M8 DB1[7]N (in) "Port 1 Negative Data Input Bit 7.", M9 DB1[8]N (in) "Port 1 Negative Data Input Bit 8.", M10 DB1[9]N (in) "Port 1 Negative Data Input Bit 9.", M11 DB1[10]N (in) "Port 1 Negative Data Input Bit 10.", M12 DB1[11]N (in) "Port 1 Negative Data Input Bit 11.", M13 DB1[12]N (in) "Port 1 Negative Data Input Bit 12.", M14 DB1[13]N (in) "Port 1 Negative Data Input Bit 13.", N1 DB0[0]P (in) "Port 0 Positive Data Input Bit 0.", N2 DB0[1]P (in) "Port 0 Positive Data Input Bit 1.", N3 DB0[2]P (in) "Port 0 Positive Data Input Bit 2.", N4 DB0[3]P (in) "Port 0 Positive Data Input Bit 3.", N5 DB0[4]P (in) "Port 0 Positive Data Input Bit 4.", N6 DB0[5]P (in) "Port 0 Positive Data Input Bit 5.", N7 DB0[6]P (in) "Port 0 Positive Data Input Bit 6.", N8 DB0[7]P (in) "Port 0 Positive Data Input Bit 7.", N9 DB0[8]P (in) "Port 0 Positive Data Input Bit 8.", N10 DB0[9]P (in) "Port 0 Positive Data Input Bit 9.", N11 DB0[10]P (in) "Port 0 Positive Data Input Bit 10.", N12 DB0[11]P (in) "Port 0 Positive Data Input Bit 11.", N13 DB0[12]P (in) "Port 0 Positive Data Input Bit 12.", N14 DB0[13]P (in) "Port 0 Positive Data Input Bit 13.", P1 DB0[0]N (in) "Port 0 Negative Data Input Bit 0.", P2 DB0[1]N (in) "Port 0 Negative Data Input Bit 1.", P3 DB0[2]N (in) "Port 0 Negative Data Input Bit 2.", P4 DB0[3]N (in) "Port 0 Negative Data Input Bit 3.", P5 DB0[4]N (in) "Port 0 Negative Data Input Bit 4.", P6 DB0[5]N (in) "Port 0 Negative Data Input Bit 5.", P7 DB0[6]N (in) "Port 0 Negative Data Input Bit 6.", P8 DB0[7]N (in) "Port 0 Negative Data Input Bit 7.", P9 DB0[8]N (in) "Port 0 Negative Data Input Bit 8.", P10 DB0[9]N (in) "Port 0 Negative Data Input Bit 9.", P11 DB0[10]N (in) "Port 0 Negative Data Input Bit 10.", P12 DB0[11]N (in) "Port 0 Negative Data Input Bit 11.", P13 DB0[12]N (in) "Port 0 Negative Data Input Bit 12.", P14 DB0[13]N (in) "Port 0 Negative Data Input Bit 13."
part B pins: A1 VSSC (power) "Clock Supply Ground.", A2 VSSC (power) "Clock Supply Ground.", A3 VSSC (power) "Clock Supply Ground.", A4 VSSC (power) "Clock Supply Ground.", A5 VSSC (power) "Clock Supply Ground.", A10 VDDA (power) "3.3 V Analog Supply Input.", A11 VDDA (power) "3.3 V Analog Supply Input.", A12 VSSA (power) "Analog Supply Ground.", A13 VSSA (power) "Analog Supply Ground.", B1 VSSC (power) "Clock Supply Ground.", B2 VSSC (power) "Clock Supply Ground.", B3 VSSC (power) "Clock Supply Ground.", B4 VSSC (power) "Clock Supply Ground.", B5 VSSC (power) "Clock Supply Ground.", B10 VDDA (power) "3.3 V Analog Supply Input.", B11 VDDA (power) "3.3 V Analog Supply Input.", B12 VSSA (power) "Analog Supply Ground.", B13 VSSA (power) "Analog Supply Ground.", C1 VDDC (power) "1.8 V Clock Supply Input.", C2 VDDC (power) "1.8 V Clock Supply Input.", C4 VSSC (power) "Clock Supply Ground.", C5 VSSC (power) "Clock Supply Ground.", C10 VDDA (power) "3.3 V Analog Supply Input.", C11 VDDA (power) "3.3 V Analog Supply Input.", C12 VSSA (power) "Analog Supply Ground.", C13 VSSA (power) "Analog Supply Ground.", D1 VDDC (power) "1.8 V Clock Supply Input.", D2 VDDC (power) "1.8 V Clock Supply Input.", D4 VSSC (power) "Clock Supply Ground.", D5 VSSC (power) "Clock Supply Ground.", D10 VDDA (power) "3.3 V Analog Supply Input.", D11 VDDA (power) "3.3 V Analog Supply Input.", D12 VSSA (power) "Analog Supply Ground.", D13 VSSA (power) "Analog Supply Ground.", E1 VDDC (power) "1.8 V Clock Supply Input.", E2 VDDC (power) "1.8 V Clock Supply Input.", E3 VDDC (power) "1.8 V Clock Supply Input.", E4 VDDC (power) "1.8 V Clock Supply Input.", G1 VDD (power) "1.8 V Digital Supply Input.", G2 VDD (power) "1.8 V Digital Supply Input.", G3 VDD (power) "1.8 V Digital Supply Input.", G4 VDD (power) "1.8 V Digital Supply Input.", G11 VDD (power) "1.8 V Digital Supply Input.", G12 VDD (power) "1.8 V Digital Supply Input.", H1 VSS (power) "Digital Supply Ground.", H2 VSS (power) "Digital Supply Ground.", H3 VSS (power) "Digital Supply Ground.", H4 VSS (power) "Digital Supply Ground.", H11 VSS (power) "Digital Supply Ground.", H12 VSS (power) "Digital Supply Ground.", J3 VDD33 (power) "3.3 V Digital Supply Input.", J4 VDD33 (power) "3.3 V Digital Supply Input.", J11 VDD33 (power) "3.3 V Digital Supply Input.", J12 VDD33 (power) "3.3 V Digital Supply Input.", K3 VSS (power) "Digital Supply Ground.", K4 VSS (power) "Digital Supply Ground.", K11 VSS (power) "Digital Supply Ground.", K12 VSS (power) "Digital Supply Ground."
part C pins: A6 VSSA Shield (power) "Analog Supply Ground Shield. Tie to VSSA at the DAC.", A9 VSSA Shield (power) "Analog Supply Ground Shield. Tie to VSSA at the DAC.", B6 VSSA Shield (power) "Analog Supply Ground Shield. Tie to VSSA at the DAC.", B9 VSSA Shield (power) "Analog Supply Ground Shield. Tie to VSSA at the DAC.", C6 VSSA Shield (power) "Analog Supply Ground Shield. Tie to VSSA at the DAC.", C9 VSSA Shield (power) "Analog Supply Ground Shield. Tie to VSSA at the DAC.", D6 VSSA Shield (power) "Analog Supply Ground Shield. Tie to VSSA at the DAC.", D9 VSSA Shield (power) "Analog Supply Ground Shield. Tie to VSSA at the DAC.", E11 VSSA Shield (power) "Analog Supply Ground Shield. Tie to VSSA at the DAC.", E12 VSSA Shield (power) "Analog Supply Ground Shield. Tie to VSSA at the DAC.", E13 VSSA Shield (power) "Analog Supply Ground Shield. Tie to VSSA at the DAC.", E14 VSSA Shield (power) "Analog Supply Ground Shield. Tie to VSSA at the DAC.", F1 VSSA Shield (power) "Analog Supply Ground Shield. Tie to VSSA at the DAC.", F2 VSSA Shield (power) "Analog Supply Ground Shield. Tie to VSSA at the DAC.", F3 VSSA Shield (power) "Analog Supply Ground Shield. Tie to VSSA at the DAC.", F4 VSSA Shield (power) "Analog Supply Ground Shield. Tie to VSSA at the DAC.", F11 VSSA Shield (power) "Analog Supply Ground Shield. Tie to VSSA at the DAC.", F12 VSSA Shield (power) "Analog Supply Ground Shield. Tie to VSSA at the DAC."